# Altium schematic symbol library Vowstar_Touch_Pad.SchLib: 2 symbols
Pins are listed as number, name and electrical type; pins without a type are passive.

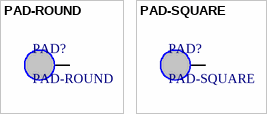
[diagram p0: symbols PAD-ROUND to PAD-SQUARE]

## PAD-ROUND
designator PAD?
footprint PAD-ROUND-36 (PAD-ROUND-36,R=3.385mm)
footprint PAD-ROUND-49 (PAD-ROUND-49,R=3.949mm)
footprint PAD-ROUND-64 (PAD-ROUND-64,R=4.514mm)
footprint PAD-ROUND-100 (PAD-ROUND-100,R=5.642mm)
footprint PAD-ROUND-144 (PAD-ROUND-144,R=6.770mm)
footprint PAD-ROUND-225 (PAD-ROUND-225,R=8.463mm)
pins: 1 PAD "Touch key n output pin."

## PAD-SQUARE
designator PAD?
footprint PAD-SQUARE-36 (PAD-SQUARE-36,L=6mm)
footprint PAD-SQUARE-49 (PAD-SQUARE-49,L=7mm)
footprint PAD-SQUARE-64 (PAD-SQUARE-64,L=8mm)
footprint PAD-SQUARE-100 (PAD-SQUARE-100,L=10mm)
footprint PAD-SQUARE-144 (PAD-SQUARE-144,L=12mm)
footprint PAD-SQUARE-225 (PAD-SQUARE-225,L=15mm)
pins: 1 PAD "Touch key n output pin."